# Altium footprint library DO214AA_ SD560BTR.PcbLib: 2 footprints
Each footprint in its own frame and in the unit in brackets; x right, y up, seen from the top. Pads: shape width x height; smd on the part's side, far side on the other; paste and mask are expansions set on the pad; w line width, h text height; cw(c..) or ccw(c..) is an arc to the next point about the centre after c.
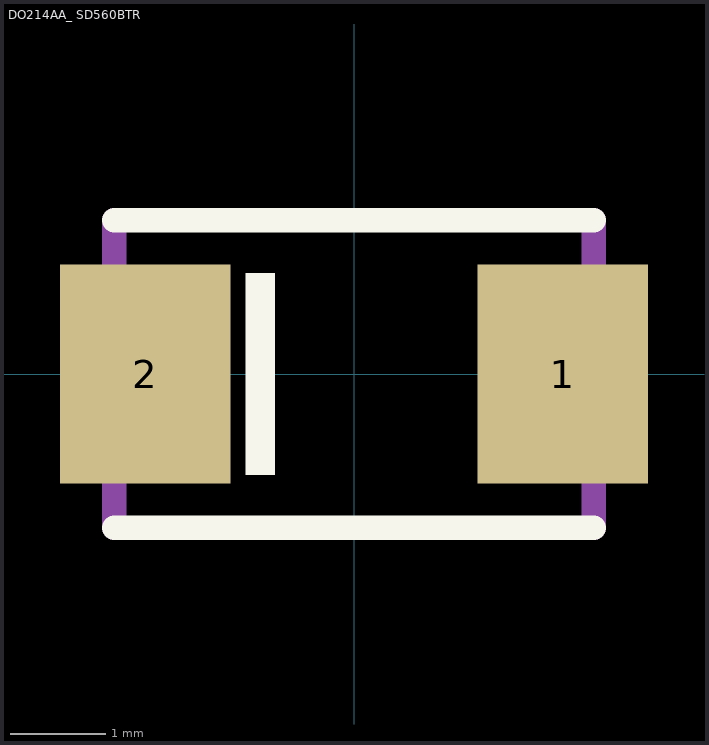
[diagram p0: the footprints below, top view; thin cyan lines are the x and y axes]

## DO214AA_ SD560BTR [mil]
pads (2):
  rect 70x90 smd: 1(85.71,0) 2(-85.71,0)
Top Overlay:
  region: -44.43,41.34 -32.56,41.34 -32.56,-41.39 -44.43,-41.39
  lines w10: -98.43,-63.15 98.43,-63.15 ; -98.43,63.15 98.43,63.15
Mechanical 13:
  region: 102.45,25.59 112.2,25.59 112.2,-27.58 102.45,-27.58
  region: -112.24,25.59 -102.36,25.59 -102.36,-27.57 -112.24,-27.57
  region: 102.45,25.59 112.2,25.59 112.2,-27.58 102.45,-27.58
  region: -112.24,25.59 -102.36,25.59 -102.36,-27.57 -112.24,-27.57
  lines w10: -98.43,-63.15 -98.43,63.15 -98.43,-63.15 ; 98.43,-63.15 98.43,63.15 98.43,-63.15
3D body "User Library-Diode Molded Body.step": height 91.45, standoff 0.5, extent -98.42,-53.14 98.43,53.16

## PCBComponent_1 [mil]